# EAGLE library part ST7735S-1.44 (library ST7735S)
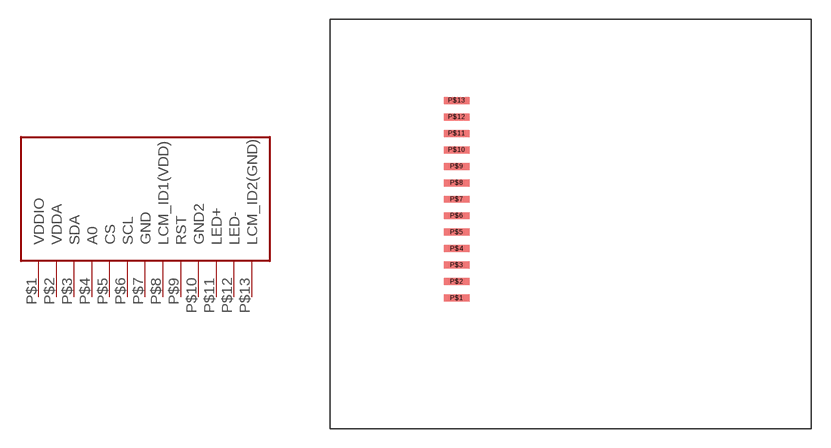
[diagram p0: symbol with the pads of ST7735S-1.44; footprint ST7735S-1.44]

Designator prefix -

## ST7735S-1.44  [ST7735S-1.44]
P$1  VDDIO
P$2  VDDA
P$3  SDA
P$4  A0
P$5  CS
P$6  SCL
P$7  GND
P$8  LCM_ID1(VDD)
P$9  RST
P$10  GND2
P$11  LED+
P$12  LED-
P$13  LCM_ID2(GND)

## Footprint ST7735S-1.44 (pad centres in mm)
smd 2 x 0.55: P$1 -9,-5.85; P$2 -9,-4.55; P$3 -9,-3.25; P$4 -9,-1.95; P$5 -9,-0.65; P$6 -9,0.65; P$7 -9,1.95; P$8 -9,3.25; P$9 -9,4.55; P$10 -9,5.85; P$11 -9,7.15; P$12 -9,8.45; P$13 -9,9.75